# EAGLE library part STEREO_DUAL_JACK (library Cycfi)
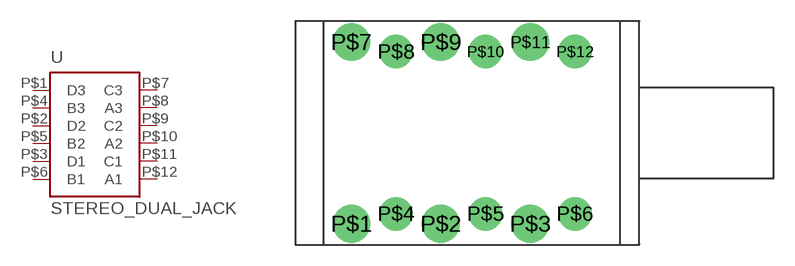
[diagram p4: symbol with the pads of 1/4"-STACKING-JACK; footprint 1/4"-STACKING-JACK]

Designator prefix -

## STEREO_DUAL_JACK  [1/4"-STACKING-JACK]
P$1  D3  pwr
P$2  D2  pwr
P$3  D1  pwr
P$4  B3  pwr
P$5  B2  pwr
P$6  B1  pwr
P$7  C3
P$8  A3
P$9  C2  out
P$10  A2  out
P$11  C1  pwr
P$12  A1  pwr

## Footprint 1/4"-STACKING-JACK (pad centres in mm)
drill 1.8: P$1 0,0; P$2 6.4,0; P$3 12.8,0; P$7 0,13; P$9 6.4,13; P$11 12.8,13
drill 1.6: P$4 3.2,0.7; P$5 9.6,0.7; P$6 16,0.7; P$8 3.2,12.3; P$10 9.6,12.3; P$12 16,12.3